# Altium footprint library SparkFun-GPS.PCBLIB: 7 footprints
Each footprint in its own frame and in the unit in brackets; x right, y up, seen from the top. Pads: shape width x height; smd on the part's side, far side on the other; paste and mask are expansions set on the pad; w line width, h text height; cw(c..) or ccw(c..) is an arc to the next point about the centre after c.
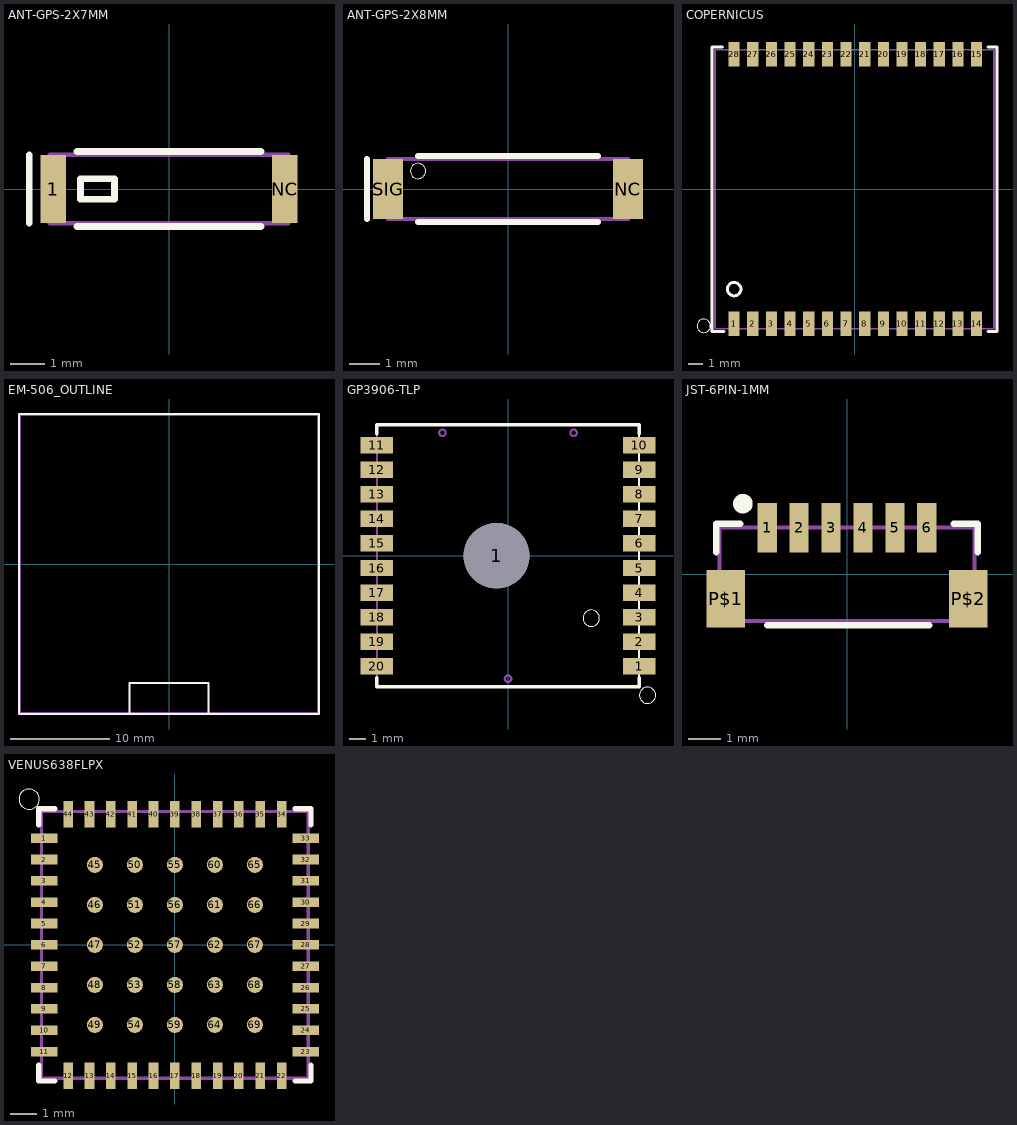
[diagram p0: the footprints below, top view; thin cyan lines are the x and y axes]

## ANT-GPS-2X7MM [mm]
pads (2):
  rect 0.75x2 smd: 1(-3.4,0) NC(3.4,0)
Top Overlay:
  lines w0.203: -4.1,-1 -4.1,1 ; -2.7,-1.1 2.7,-1.1 ; -2.7,1.1 2.7,1.1 ; -2.6,-0.3 -2.6,0.3 -1.6,0.3 -1.6,-0.3 -2.6,-0.3
Mechanical 16:
  lines w0.127: -3.5,-1 3.5,-1 3.5,1 -3.5,1 -3.5,-1

## ANT-GPS-2X8MM [mm]
pads (2):
  rect 1x2 smd: NC(4,0) SIG(-4,0)
Top Overlay:
  circle w0: c-3,0.6 r0.254
  lines w0.203: -4.7,-1 -4.7,1 ; -3,-1.1 3,-1.1 ; -3,1.1 3,1.1
Mechanical 16:
  lines w0.127: -4,-1 -4,1 4,1 4,-1 -4,-1
  text "152111" at 0,0 h0.52

## COPERNICUS [mil]
pads (28):
  rect 30x65 smd: 1(-322.83,-360.8) 2(-272.83,-360.8) 3(-222.83,-360.8) 4(-172.83,-360.8) 5(-122.83,-360.8) 6(-72.83,-360.8) 7(-22.83,-360.8) 8(27.17,-360.8) 9(77.17,-360.8) 10(127.17,-360.8) 11(177.17,-360.8) 12(227.17,-360.8) 13(277.17,-360.8) 14(327.17,-360.8) 15(327.17,362.2) 16(277.17,362.2) 17(227.17,362.2) 18(177.17,362.2) 19(127.17,362.2) 20(77.17,362.2) 21(27.17,362.2) 22(-22.83,362.2) 23(-72.83,362.2) 24(-122.83,362.2) 25(-172.83,362.2) 26(-222.83,362.2) 27(-272.83,362.2) 28(-322.83,362.2)
Top Overlay:
  circle w8: c-322.83,-267.72 r17.99
  circle w0: c-404.45,-366.14 r17.99
  lines w8: -354.33,381.89 -381.89,381.89 -381.89,-381.89 -350.39,-381.89 ; 358.27,-381.89 381.89,-381.89 381.89,381.89 358.27,381.89
Top Paste:
  region: 0,0 10,0 10,10 0,10
  region: 0,0 10,0 10,10 0,10
  region: 0,0 10,0 10,10 0,10
  region: 0,0 10,0 10,10 0,10
  region: 0,0 10,0 10,10 0,10
  region: 0,0 10,0 10,10 0,10
  region: 0,0 10,0 10,10 0,10
  region: 0,0 10,0 10,10 0,10
  region: 0,0 10,0 10,10 0,10
  region: 0,0 10,0 10,10 0,10
  region: 0,0 10,0 10,10 0,10
  region: 0,0 10,0 10,10 0,10
  region: 0,0 10,0 10,10 0,10
  region: 0,0 10,0 10,10 0,10
  region: 0,0 10,0 10,10 0,10
  region: 0,0 10,0 10,10 0,10
  region: 0,0 10,0 10,10 0,10
  region: 0,0 10,0 10,10 0,10
  region: 0,0 10,0 10,10 0,10
  region: 0,0 10,0 10,10 0,10
  region: 0,0 10,0 10,10 0,10
  region: 0,0 10,0 10,10 0,10
  region: 0,0 10,0 10,10 0,10
  region: 0,0 10,0 10,10 0,10
  region: 0,0 10,0 10,10 0,10
  region: 0,0 10,0 10,10 0,10
  region: 0,0 10,0 10,10 0,10
  region: 0,0 10,0 10,10 0,10
Mechanical 16:
  lines w5: -374.02,-374.02 -374.02,374.02 374.02,374.02 374.02,-374.02 -374.02,-374.02

## EM-506_OUTLINE [mm]
Top Overlay:
  lines w0.203: -4,-15.127 4,-15.127 ; -4,-15.127 -15.127,-15.127 -15.127,15.127 15.127,15.127 15.127,-15.127 4,-15.127 ; -4,-15.127 -4,-12 4,-12 4,-15.127
Mechanical 16:
  lines w0.127: -15,-15 -15,15 15,15 15,-15 -15,-15

## GP3906-TLP [mm]
pads (21):
  round 4 hole 4: 1(-0.7,0)
  rect 2x1 smd: 1(8,-6.75) 2(8,-5.25) 3(8,-3.75) 4(8,-2.25) 5(8,-0.75) 6(8,0.75) 7(8,2.25) 8(8,3.75) 9(8,5.25) 10(8,6.75) 11(-8,6.75) 12(-8,5.25) 13(-8,3.75) 14(-8,2.25) 15(-8,0.75) 16(-8,-0.75) 17(-8,-2.25) 18(-8,-3.75) 19(-8,-5.25) 20(-8,-6.75)
Top Overlay:
  circle w0: c8.509,-8.508 r0.5
  circle w0: c5.08,-3.809 r0.5
  lines w0.127: 8,-7.45 8,7.45
  lines w0.203: -8,-7.45 -8,-8 8,-8 8,-7.45 ; -8,7.45 -8,8 8,8 8,7.45
Top Paste:
  rectangle: -9.15,-1.4 -6.85,-0.1
  rectangle: -9.15,0.1 -6.85,1.4
  rectangle: -9.15,1.6 -6.85,2.9
  rectangle: -9.15,3.1 -6.85,4.4
  rectangle: -9.15,4.6 -6.85,5.9
  rectangle: -9.15,6.1 -6.85,7.4
  rectangle: -9.15,-2.9 -6.85,-1.6
  rectangle: -9.15,-4.4 -6.85,-3.1
  rectangle: -9.15,-5.9 -6.85,-4.6
  rectangle: -9.15,-7.4 -6.85,-6.1
  region: 9.15,-6.1 6.85,-6.1 6.85,-7.4 9.15,-7.4
  region: 9.15,-4.6 6.85,-4.6 6.85,-5.9 9.15,-5.9
  region: 9.15,-3.1 6.85,-3.1 6.85,-4.4 9.15,-4.4
  region: 9.15,-1.6 6.85,-1.6 6.85,-2.9 9.15,-2.9
  region: 9.15,-0.1 6.85,-0.1 6.85,-1.4 9.15,-1.4
  region: 9.15,1.4 6.85,1.4 6.85,0.1 9.15,0.1
  region: 9.15,2.9 6.85,2.9 6.85,1.6 9.15,1.6
  region: 9.15,4.4 6.85,4.4 6.85,3.1 9.15,3.1
  region: 9.15,5.9 6.85,5.9 6.85,4.6 9.15,4.6
  region: 9.15,7.4 6.85,7.4 6.85,6.1 9.15,6.1
Mechanical 16:
  circle w0.127: c-0.7,0 r1.2
  circle w0.127: c0,-7.5 r0.2
  circle w0.127: c-4,7.5 r0.2
  circle w0.127: c4,7.5 r0.2
  region: 0,0 0.254,0 0.254,0.254 0,0.254
  region: 0,0 0.254,0 0.254,0.254 0,0.254
  region: 0,0 0.254,0 0.254,0.254 0,0.254
  region: 0,0 0.254,0 0.254,0.254 0,0.254
  region: 0,0 0.254,0 0.254,0.254 0,0.254
  region: 0,0 0.254,0 0.254,0.254 0,0.254
  region: 0,0 0.254,0 0.254,0.254 0,0.254
  region: 0,0 0.254,0 0.254,0.254 0,0.254
  region: 0,0 0.254,0 0.254,0.254 0,0.254
  region: 0,0 0.254,0 0.254,0.254 0,0.254
  region: 0,0 0.254,0 0.254,0.254 0,0.254
  region: 0,0 0.254,0 0.254,0.254 0,0.254
  region: 0,0 0.254,0 0.254,0.254 0,0.254
  region: 0,0 0.254,0 0.254,0.254 0,0.254
  region: 0,0 0.254,0 0.254,0.254 0,0.254
  region: 0,0 0.254,0 0.254,0.254 0,0.254
  region: 0,0 0.254,0 0.254,0.254 0,0.254
  region: 0,0 0.254,0 0.254,0.254 0,0.254
  region: 0,0 0.254,0 0.254,0.254 0,0.254
  region: 0,0 0.254,0 0.254,0.254 0,0.254
  lines w0.127: -8,-8 8,-8 8,8 -8,8 -8,-8

## JST-6PIN-1MM [mm]
pads (8):
  rect 0.6x1.55 smd: 1(-2.5,1.45) 2(-1.5,1.45) 3(-0.5,1.45) 4(0.5,1.45) 5(1.5,1.45) 6(2.5,1.45)
  rect 1.2x1.8 smd: P$1(-3.8,-0.775) P$2(3.8,-0.775)
Top Overlay:
  circle w0.406: c-3.262,2.212 r0.105
  lines w0.203: -4.104,0.688 -4.104,1.577 -3.342,1.577 ; -2.5,-1.598 2.58,-1.598 ; 3.342,1.577 4.104,1.577 4.104,0.688
Mechanical 16:
  lines w0.127: -4,-1.471 4,-1.471 4,1.471 -4,1.471 -4,-1.471

## VENUS638FLPX [mm]
pads (69):
  rect 1x0.36 smd: 1(-4.9,4) 2(-4.9,3.2) 3(-4.9,2.4) 4(-4.9,1.6) 5(-4.9,0.8) 6(-4.9,0) 7(-4.9,-0.8) 8(-4.9,-1.6) 9(-4.9,-2.4) 10(-4.9,-3.2) 11(-4.9,-4) 23(4.9,-4) 24(4.9,-3.2) 25(4.9,-2.4) 26(4.9,-1.6) 27(4.9,-0.8) 28(4.9,0) 29(4.9,0.8) 30(4.9,1.6) 31(4.9,2.4) 32(4.9,3.2) 33(4.9,4)
  rect 0.36x1 smd: 12(-4,-4.9) 13(-3.2,-4.9) 14(-2.4,-4.9) 15(-1.6,-4.9) 16(-0.8,-4.9) 17(0,-4.9) 18(0.8,-4.9) 19(1.6,-4.9) 20(2.4,-4.9) 21(3.2,-4.9) 22(4,-4.9) 34(4,4.9) 35(3.2,4.9) 36(2.4,4.9) 37(1.6,4.9) 38(0.8,4.9) 39(0,4.9) 40(-0.8,4.9) 41(-1.6,4.9) 42(-2.4,4.9) 43(-3.2,4.9) 44(-4,4.9)
  rrect100% 0.6x0.6 smd: 45(-3,3) 46(-3,1.5) 47(-3,0) 48(-3,-1.5) 49(-3,-3) 50(-1.5,3) 51(-1.5,1.5) 52(-1.5,0) 53(-1.5,-1.5) 54(-1.5,-3) 55(0,3) 56(0,1.5) 57(0,0) 58(0,-1.5) 59(0,-3) 60(1.5,3) 61(1.5,1.5) 62(1.5,0) 63(1.5,-1.5) 64(1.5,-3) 65(3,3) 66(3,1.5) 67(3,0) 68(3,-1.5) 69(3,-3)
Top Overlay:
  circle w0: c-5.461,5.461 r0.381
  lines w0.203: -5.1,-4.5 -5.1,-5.1 -4.5,-5.1 ; -5.1,4.5 -5.1,5.1 -4.5,5.1 ; 4.5,-5.1 5.1,-5.1 5.1,-4.5 ; 4.5,5.1 5.1,5.1 5.1,4.5
Mechanical 16:
  lines w0.127: -5,-5 -5,5 5,5 5,-5 -5,-5